# EAGLE library part CS2000CP-CZZ (library Fugu_LSI)
Fractional-N Clock Synthesizer & Clock Multiplier
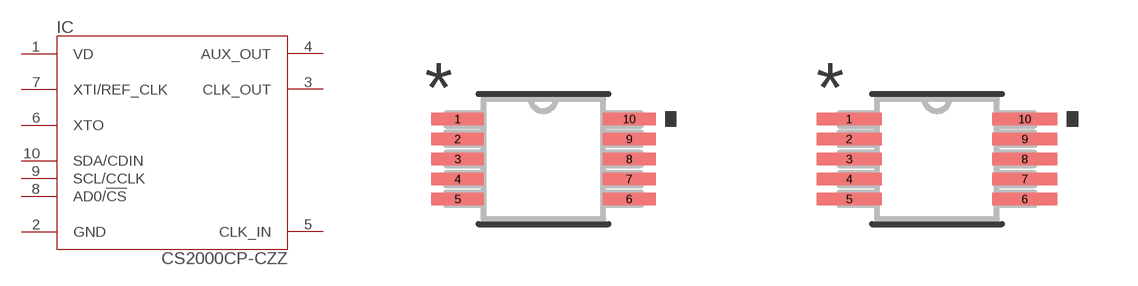
[diagram p39: symbol with the pads of CIR-MSOP-10; footprints CIR-MSOP-10, CIR-MSOP-10-M]

Designator prefix IC

## CS2000CP-CZZ (MANUFACTURER_PART_NUMBER: CS2000CPCZZ; VENDOR: Cirrus Logic)  [CIR-MSOP-10]
1  VD  pwr
2  GND  pwr
3  CLK_OUT  out
4  AUX_OUT  out
5  CLK_IN  in
6  XTO  out
7  XTI/REF_CLK
8  AD0/!CS  in
9  SCL/CCLK  in
10  SDA/CDIN

## CS2000CP-CZZCIR-MSOP-10-M (MANUFACTURER_PART_NUMBER: CS2000CPCZZ; VENDOR: Cirrus Logic)  [CIR-MSOP-10-M]
Pads as for CIR-MSOP-10

## CS2000CP-CZZCIR-MSOP-10-L (MANUFACTURER_PART_NUMBER: CS2000CPCZZ; VENDOR: Cirrus Logic)  [CIR-MSOP-10-L]
Pads as for CIR-MSOP-10

## Footprint CIR-MSOP-10 (pad centres in mm)
smd 1.321 x 0.305: 1 -2.146,1; 2 -2.146,0.5; 3 -2.146,0; 4 -2.146,-0.5; 5 -2.146,-1; 6 2.146,-1; 7 2.146,-0.5; 8 2.146,0; 9 2.146,0.5; 10 2.146,1

## Footprint CIR-MSOP-10-M (pad centres in mm)
smd 1.626 x 0.305: 1 -2.197,1; 2 -2.197,0.5; 3 -2.197,0; 4 -2.197,-0.5; 5 -2.197,-1; 6 2.197,-1; 7 2.197,-0.5; 8 2.197,0; 9 2.197,0.5; 10 2.197,1

## Footprint CIR-MSOP-10-L (pad centres in mm)
smd 1.016 x 0.305: 1 -2.095,1; 2 -2.095,0.5; 3 -2.095,0; 4 -2.095,-0.5; 5 -2.095,-1; 6 2.095,-1; 7 2.095,-0.5; 8 2.095,0; 9 2.095,0.5; 10 2.095,1